# EAGLE library part 27899PAR-ND (library EELE_465)
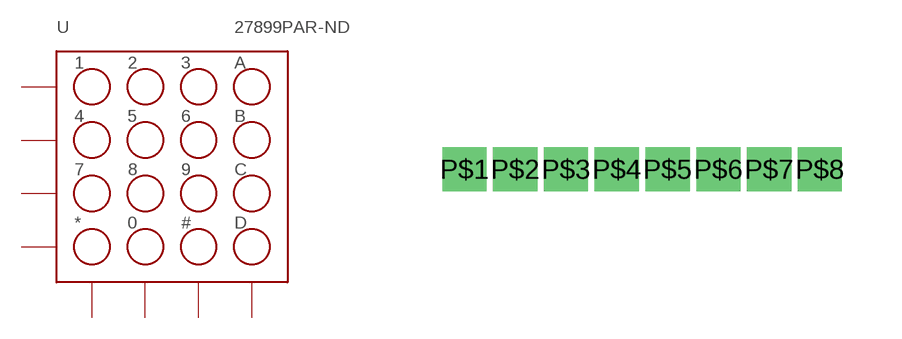
[diagram p1: symbol with the pads of 27899PAR-ND; footprint 27899PAR-ND]

Designator prefix -

## 27899PAR-ND  [27899PAR-ND]
P$1  P$1
P$2  P$2
P$3  P$3
P$4  P$4
P$5  P$5
P$6  P$6
P$7  P$7
P$8  P$8

## Footprint 27899PAR-ND (pad centres in mm)
drill 0.6 square: P$1 0,0; P$2 1.27,0; P$3 2.54,0; P$4 3.81,0; P$5 5.08,0; P$6 6.35,0; P$7 7.62,0; P$8 8.89,0